# Altium footprint library connectors.PcbLib: 60 footprints (part 4 of 4)
Each footprint in its own frame and in the unit in brackets; x right, y up, seen from the top. Pads: shape width x height; smd on the part's side, far side on the other; paste and mask are expansions set on the pad; w line width, h text height; cw(c..) or ccw(c..) is an arc to the next point about the centre after c.
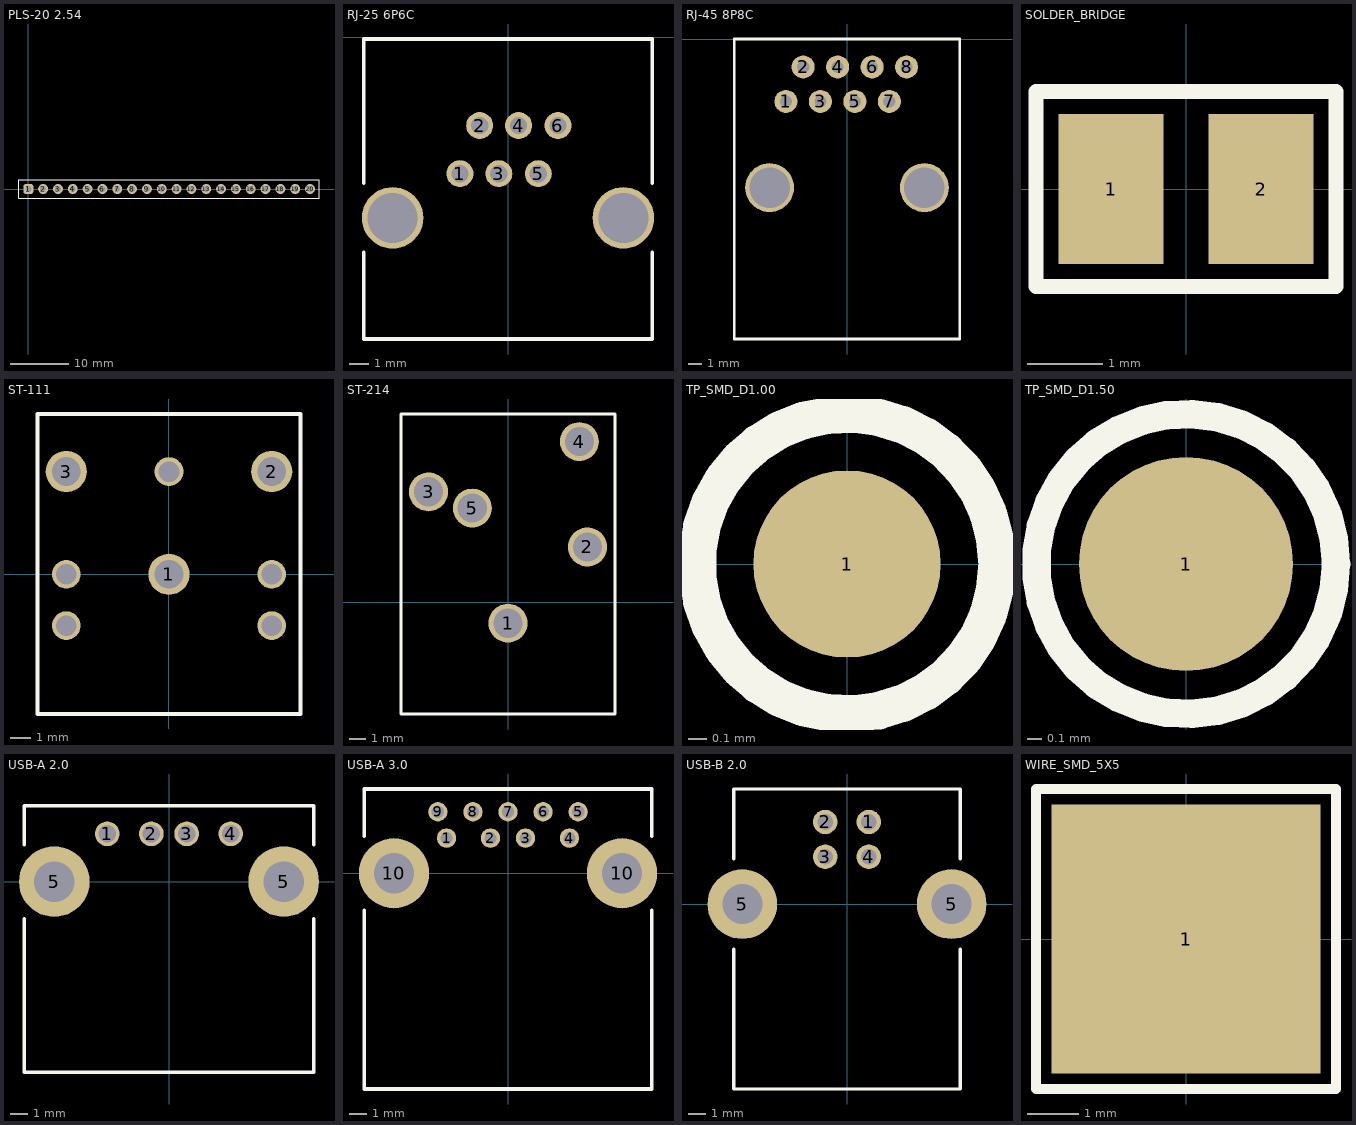
[diagram p3: the footprints below, top view; thin cyan lines are the x and y axes]

## PLS-20 2.54 [mm] "Pitch 2.54"
height 8.5
pads (20):
  rrect50% 1.7x1.7 hole 1 mask+0.1: 1(0,0)
  round 1.7 hole 1 mask+0.1: 2(2.54,0) 3(5.08,0) 4(7.62,0) 5(10.16,0) 6(12.7,0) 7(15.24,0) 8(17.78,0) 9(20.32,0) 10(22.86,0) 11(25.4,0) 12(27.94,0) 13(30.48,0) 14(33.02,0) 15(35.56,0) 16(38.1,0) 17(40.64,0) 18(43.18,0) 19(45.72,0) 20(48.26,0)
Top Overlay:
  lines w0.2: -1.6,-1.6 49.8,-1.6 49.8,1.6 -1.6,1.6 -1.6,-1.6
3D body "HEADER_1x10_2.54.stp": height 8.54, standoff -3, extent -1.27,-1.27 24.13,1.27
3D body "HEADER_1x10_2.54.stp": height 8.54, standoff -3, extent 24.13,-1.27 49.53,1.27

## RJ-25 6P6C [mm] "RJ-25"
height 8.5
pads (8):
  round 1.4 hole 0.9 mask+0.1: 1(-2.5,-7.1) 2(-1.475,-4.6) 3(-0.475,-7.1) 4(0.55,-4.6) 5(1.575,-7.1) 6(2.6,-4.6)
  round 3.2 hole 2.6 mask+0.1: ""(-6,-9.4) ""(6,-9.4)
Top Overlay:
  lines w0.2: -7.5,-11.2 -7.5,-15.7 7.5,-15.7 7.5,-11.2 ; -7.5,-7.6 -7.5,-0.1 7.5,-0.1 7.5,-7.6
3D body "RJ-12.stp": height 14.35, standoff -3.25, extent -7.2,-15.4 7.2,-0.4

## RJ-45 8P8C [mm] "RJ-45"
height 8.5
pads (10):
  round 1.7 hole 0.9 mask+0.1: 1(-4.5,-4.6) 2(-3.23,-2.06) 3(-1.96,-4.6) 4(-0.69,-2.06) 5(0.58,-4.6) 6(1.85,-2.06) 7(3.12,-4.6) 8(4.39,-2.06)
  round 3.6 hole 3 mask+0.1: ""(-5.7,-10.95) ""(5.7,-10.95)
Top Overlay:
  lines w0.2: -8.3,-22.1 8.3,-22.1 8.3,0 -8.3,0 -8.3,-22.1
3D body "RJ45 x 1.step": height 13.6, standoff -4, extent -7.95,-21.75 7.95,-0.35

## SOLDER_BRIDGE [mm] "Solder bridge"
pads (2):
  rect 1.4x2 smd paste-10 mask+0.1: 1(-1,0) 2(1,0)
Top Overlay:
  lines w0.2: -2,-1.3 2,-1.3 2,1.3 -2,1.3 -2,-1.3
3D body: height 1, standoff 0, extent -0.8,-1 0.8,1

## ST-111 [mm]
pads (8):
  round 2 hole 1.4 mask+0.1: 1(0,0) 2(5,5) 3(-5,5)
  round 1.4 hole 1 mask+0.1: ""(-5,-2.5) ""(-5,0) ""(0,5) ""(5,-2.5) ""(5,0)
Top Overlay:
  lines w0.2: -6.4,-6.8 -6.4,7.8 6.4,7.8 6.4,-6.8 -6.4,-6.8
3D body "ST-111.step": height 5.5, standoff -3.3, extent -6,-6.5 6,7.5

## ST-214 [mm]
pads (5):
  round 2.4 hole 1.8: 1(0,-1.3) 2(4.9,3.4) 3(-4.9,6.8) 4(4.4,9.9) 5(-2.2,5.8)
Top Overlay:
  lines w0.2: -6.6,-6.9 6.6,-6.9 6.6,11.6 -6.6,11.6 -6.6,-6.9
3D body "EBS35 3.5mm Stereo Connector.stp": height 7.5, standoff -2.7, extent -5.7,-6.55 5.8,11.15

## TP_SMD_D1.00 [mm] "SMD test point, 1.0 mm diameter"
pads (1):
  round 1 smd paste-10 mask+0.1: 1(0,0)
Top Overlay:
  circle w0.2: c0,0 r0.8

## TP_SMD_D1.50 [mm] "SMD test point, 1.50 mm diameter"
pads (1):
  round 1.5 smd paste-10 mask+0.1: 1(0,0)
Top Overlay:
  circle w0.2: c0,0 r1.05

## USB-A 2.0 [mm]
pads (6):
  round 1.4 hole 1 mask+0.1: 1(-3.5,2.71) 2(-1,2.71) 3(1,2.71) 4(3.5,2.71)
  round 4 hole 2.3 mask+0.1: 5(-6.5,0) 5(6.5,0)
Top Overlay:
  lines w0.2: -8.2,-2.1 -8.2,-10.8 8.2,-10.8 8.2,-2.1 ; -8.2,2.1 -8.2,4.3 8.2,4.3 8.2,2.1
3D body "femaleThruHoleUSB.stp": height 7.55, standoff -3.58, extent -7.885,-10.445 7.885,4

## USB-A 3.0 [mm]
pads (11):
  round 1.1 hole 0.7 mask+0.1: 1(-3.5,2) 2(-1,2) 3(1,2) 4(3.5,2) 5(4,3.5) 6(2,3.5) 7(0,3.5) 8(-2,3.5) 9(-4,3.5)
  round 4 hole 2.3 mask+0.1: 10(-6.5,0) 10(6.5,0)
Top Overlay:
  lines w0.2: -8.2,-2.1 -8.2,-12.3 8.2,-12.3 8.2,-2.1 ; -8.2,2.1 -8.2,4.8 8.2,4.8 8.2,2.1
3D body "USB 3.0 A Recepticle.stp": height 7.77, standoff -3.35, extent -7.853,-12 7.853,4.5

## USB-B 2.0 [mm]
pads (6):
  round 1.4 hole 0.9 mask+0.1: 1(1.25,4.71) 2(-1.25,4.71) 3(-1.25,2.71) 4(1.25,2.71)
  round 4 hole 2.3 mask+0.1: 5(-6,0) 5(6,0)
Top Overlay:
  lines w0.2: -6.5,-2.6 -6.5,-10.6 6.5,-10.6 6.5,-2.6 ; -6.5,2.6 -6.5,6.6 6.5,6.6 6.5,2.6
3D body "USB type-B female PCB.STEP": height 10.75, standoff -2.88, extent -7.45,-10.3 7.45,6.3

## WIRE_SMD_5X5 [mm]
pads (1):
  rect 5.2x5.2 smd mask+0.1: 1(0,0)
Top Overlay:
  lines w0.2: -2.9,-2.9 -2.9,2.9 2.9,2.9 2.9,-2.9 -2.9,-2.9